# EAGLE library part 618037231121 (library Input-Output_Connectors_rev15d)
WR-DSUB 8.08mm Female Angled PCB Connector with Hex Screw, 37 Pins=>Code : Con_I-O_DSUB_PCB_Female_w-screw_618037231121 <http://katalog.we-online.de/media/images/eican/Con_I-O_DSUB_PCB_Female_w-screw_6180xx231121_pf2.jpg> Details see: http://katalog.we-online.de/en/em/618_0xx_231_121 Created 2014-07-10, Karrer Zheng 2014 (C) Würth Elektronik
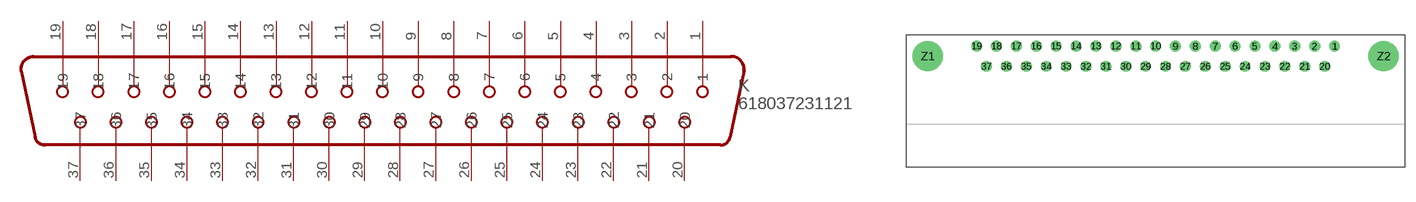
[diagram p35: symbol with the pads of 618037231121; footprint 618037231121]

Designator prefix K

## 618037231121  [618037231121]
1  1
2  2
3  3
4  4
5  5
6  6
7  7
8  8
9  9
10  10
11  11
12  12
13  13
14  14
15  15
16  16
17  17
18  18
19  19
20  20
21  21
22  22
23  23
24  24
25  25
26  26
27  27
28  28
29  29
30  30
31  31
32  32
33  33
34  34
35  35
36  36
37  37

## Footprint 618037231121 (pad centres in mm)
WR-DSUB 8.08mm Female Angled PCB Connector with Hex Screw, 37 Pins
drill 1: 1 24.93,1.42; 2 22.16,1.42; 3 19.39,1.42; 4 16.62,1.42; 5 13.85,1.42; 6 11.08,1.42; 7 8.31,1.42; 8 5.54,1.42; 9 2.77,1.42; 10 0,1.42; 11 -2.77,1.42; 12 -5.54,1.42; 13 -8.31,1.42; 14 -11.08,1.42; 15 -13.85,1.42; 16 -16.62,1.42; 17 -19.39,1.42; 18 -22.16,1.42; 19 -24.93,1.42; 20 23.545,-1.42; 21 20.775,-1.42; 22 18.005,-1.42; 23 15.235,-1.42; 24 12.465,-1.42; 25 9.695,-1.42; 26 6.925,-1.42; 27 4.155,-1.42; 28 1.385,-1.42; 29 -1.385,-1.42; 30 -4.155,-1.42; 31 -6.925,-1.42; 32 -9.695,-1.42; 33 -12.465,-1.42; 34 -15.235,-1.42; 35 -18.005,-1.42; 36 -20.775,-1.42; 37 -23.545,-1.42
drill 3.2: Z1 -31.75,0; Z2 31.75,0